# Altium footprint library M5311 (2).PcbLib: 1 footprints
Each footprint in its own frame and in the unit in brackets; x right, y up, seen from the top. Pads: shape width x height; smd on the part's side, far side on the other; paste and mask are expansions set on the pad; w line width, h text height; cw(c..) or ccw(c..) is an arc to the next point about the centre after c.
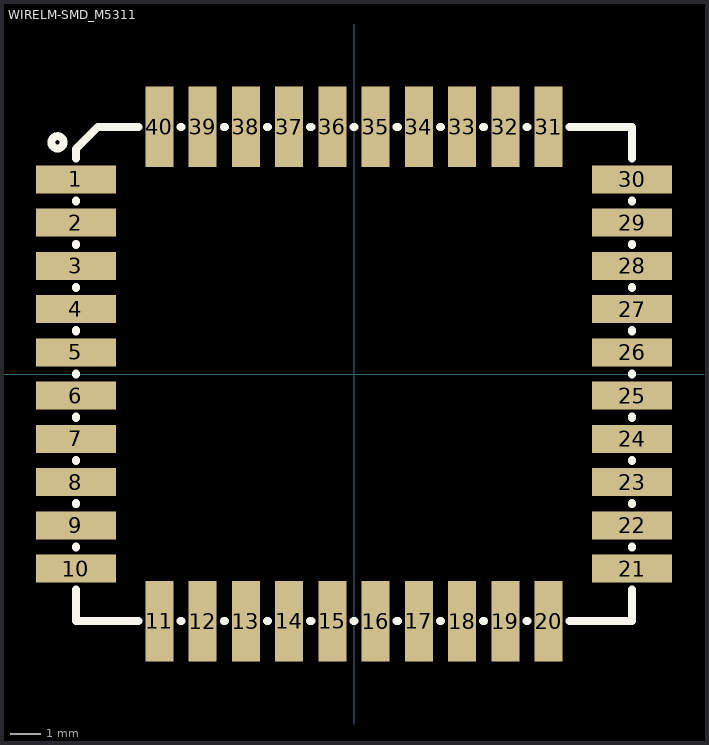
[diagram p0: the footprint, top view; thin cyan lines are the x and y axes]

## WIRELM-SMD_M5311 [mm]
pads (40):
  rect 2.6x0.9 smd: 1(-9,6.3) 2(-9,4.9) 3(-9,3.5) 4(-9,2.1) 5(-9,0.7) 6(-9,-0.7) 7(-9,-2.1) 8(-9,-3.5) 9(-9,-4.9) 10(-9,-6.3) 21(9,-6.3) 22(9,-4.9) 23(9,-3.5) 24(9,-2.1) 25(9,-0.7) 26(9,0.7) 27(9,2.1) 28(9,3.5) 29(9,4.9) 30(9,6.3)
  rect 0.9x2.6 smd: 11(-6.3,-8) 12(-4.9,-8) 13(-3.5,-8) 14(-2.1,-8) 15(-0.7,-8) 16(0.7,-8) 17(2.1,-8) 18(3.5,-8) 19(4.9,-8) 20(6.3,-8) 31(6.3,8) 32(4.9,8) 33(3.5,8) 34(2.1,8) 35(0.7,8) 36(-0.7,8) 37(-2.1,8) 38(-3.5,8) 39(-4.9,8) 40(-6.3,8)
Top Overlay:
  circle w0.254: c-9.6,7.5 r0.2
  lines w0.254: -9,-6.981 -9,-8 -6.981,-8 ; -9,-5.619 -9,-5.581 ; -9,-4.219 -9,-4.181 ; -9,-2.819 -9,-2.781 ; -9,-1.419 -9,-1.381 ; -9,-0.019 -9,0.019 ; -9,1.381 -9,1.419 ; -9,2.781 -9,2.819 ; -9,4.181 -9,4.219 ; -9,5.581 -9,5.619 ; -9,6.981 -9,7.287 -8.287,8 -6.981,8 ; -5.619,-8 -5.581,-8 ; -5.619,8 -5.581,8 ; -4.219,-8 -4.181,-8 ; -4.219,8 -4.181,8 ; -2.819,-8 -2.781,-8 ; -2.819,8 -2.781,8 ; -1.419,-8 -1.381,-8 ; -1.419,8 -1.381,8 ; -0.019,-8 0.019,-8 ; -0.019,8 0.019,8 ; 1.381,-8 1.419,-8 ; 1.381,8 1.419,8 ; 2.781,-8 2.819,-8 ; 2.781,8 2.819,8 ; 4.181,-8 4.219,-8 ; 4.181,8 4.219,8 ; 5.581,-8 5.619,-8 ; 5.581,8 5.619,8 ; 6.981,-8 9,-8 9,-6.981 ; 6.981,8 9,8 9,6.981 ; 9,-5.619 9,-5.581 ; 9,-4.219 9,-4.181 ; 9,-2.819 9,-2.781 ; 9,-1.419 9,-1.381 ; 9,-0.019 9,0.019 ; 9,1.381 9,1.419 ; 9,2.781 9,2.819 ; 9,4.181 9,4.219 ; 9,5.581 9,5.619